# EAGLE library part MPL115A (library SparkFun-Sensors)
NXP MPL115A 50 to 115kPa, Absolute Digital Pressure Sensor The MPL115A is a simple barometer with digital output for cost-effective applications. It employs a MEMS pressure sensor with a conditioning integrated circuit to provide accurate pressure data. An integrated analog-to-digital converter (ADC) provides digitized temperature and pressure sensor outputs via either a serial peripheral interface (SPI) (MPL115A1) or I²C (MPL115A2) port. Datasheet <http://www.sparkfun.com/datasheets/Sensors/Pressure/MPL115A1.pdf> SparkFun Products SparkFun Barometric Pressure Sensor Breakout - MPL115A1 <https://www.sparkfun.com/products/9721> (SEN-09721) Barometric Pressure Sensor - MPL115A1 <https://www.sparkfun.com/products/9602> (SEN-09602)
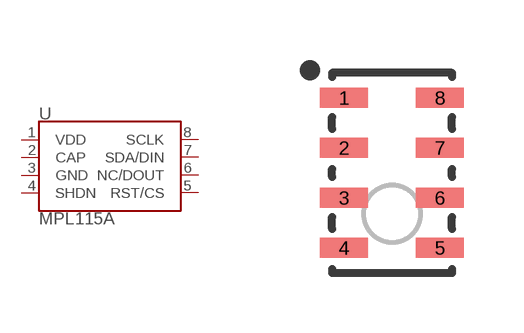
[diagram p11: symbol with the pads of LGA-8; footprint LGA-8]

Designator prefix U

## MPL115A (PROD_ID: IC-09492; SF_ID: SEN-09602)  [LGA-8]
1  VDD
2  CAP
3  GND
4  SHDN
5  RST/CS
6  NC/DOUT
7  SDA/DIN
8  SCLK

## Footprint LGA-8 (pad centres in mm)
8-Pin Land Grid Array (LGA) (5 x 3 mm) Datasheet <http://cdn.sparkfun.com/datasheets/Sensors/Pressure/MPL3115A2.pdf> Specifications: Pin Count: 8 Area: 5.0 x 3.0 x 1.2 mm Pitch: 1.25 mm Devices Using: MPL115A MPL3115A2
smd 1.2 x 0.5: 1 -1.2,1.875; 2 -1.2,0.625; 3 -1.2,-0.625; 4 -1.2,-1.875; 5 1.2,-1.875; 6 1.2,-0.625; 7 1.2,0.625; 8 1.2,1.875